# Altium schematic symbol library W25Qxx.SchLib: 1 symbol
Pins are listed as number, name and electrical type; pins without a type are passive.

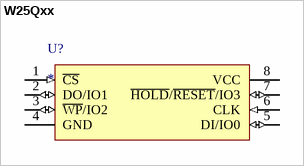
[diagram p0: symbol W25Qxx]

## W25Qxx
designator U?
3V SERIAL FLASH MEMORY WITH DUAL/QUAD SPI & QPI
footprint W25Qxx (Footprint not found)
pins: 1 ~{CS} (in), 2 DO/IO1 (io), 3 ~{WP}/IO2 (io), 4 GND (power), 5 DI/IO0 (io), 6 CLK (in), 7 ~{HOLD}/~{RESET}/IO3 (io), 8 VCC (power)